# Altium integrated library MHCI06030.IntLib: 1 symbol
Pins are listed as number, name and electrical type; pins without a type are passive.

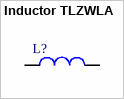
[diagram p0: symbol Inductor TLZWLA]

## Inductor TLZWLA
designator L?, comment inductor  (value not drawn)
TLZWLA MHCI06030
footprint INDP7266X30N (Precision Wire Wound Inductor, 2-Leads, Body 7,15x6,60mm, IPC Medium Density)
pins: 1, 2